# EAGLE library part PIN_HEADER_1X8 (library sapphire)
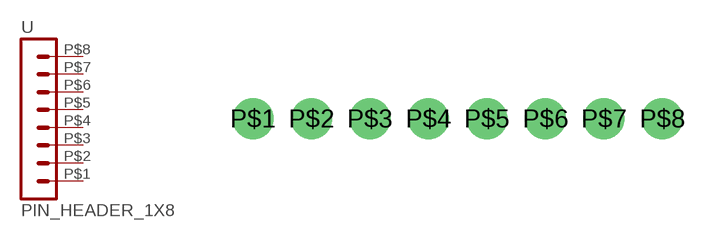
[diagram p16: symbol with the pads of PIN_HEADER_1X8; footprint PIN_HEADER_1X8]

Designator prefix -

## PIN_HEADER_1X8  [PIN_HEADER_1X8]
P$1  1  pas
P$2  2  pas
P$3  3  pas
P$4  4  pas
P$5  5  pas
P$6  6  pas
P$7  7  pas
P$8  8  pas

## Footprint PIN_HEADER_1X8 (pad centres in mm)
drill 1.016 pad 1.778: P$1 -8.89,0; P$2 -6.35,0; P$3 -3.81,0; P$4 -1.27,0; P$5 1.27,0; P$6 3.81,0; P$7 6.35,0; P$8 8.89,0